# Altium schematic symbol library PicoROM.SchLib: 23 symbols
Pins are listed as number, name and electrical type; pins without a type are passive.

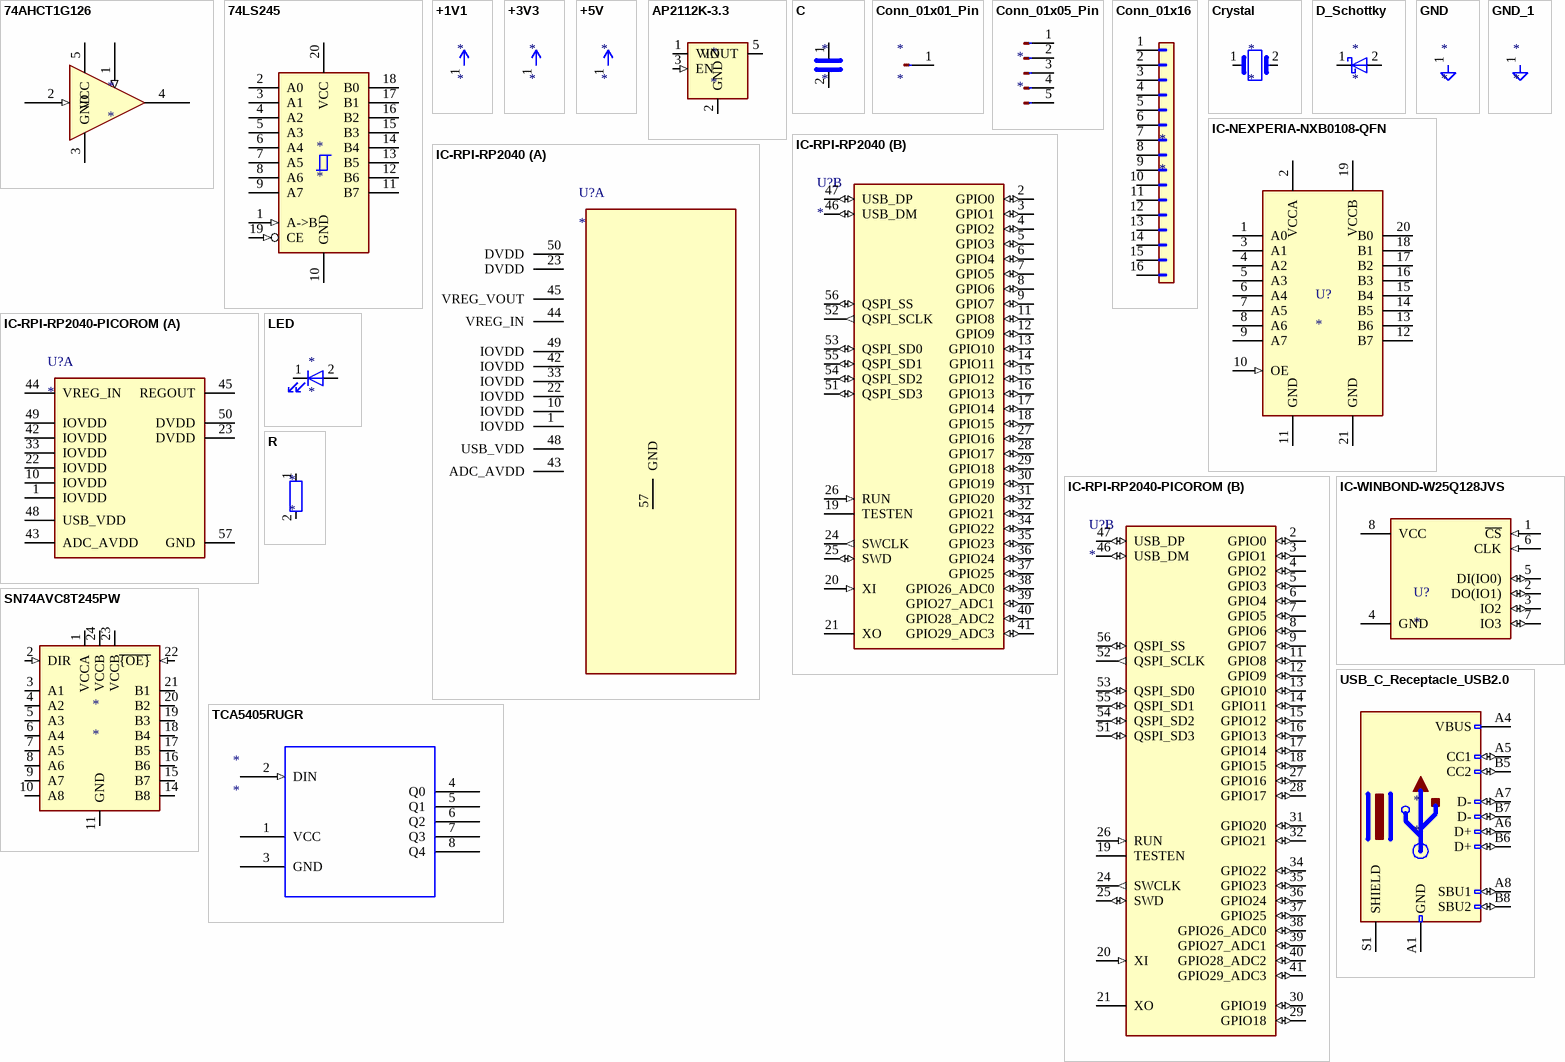
[diagram p0: symbols 74AHCT1G126 to USB_C_Receptacle_USB2.0]

## 74AHCT1G126
designator *
pins: 1 (in), 2 (in), 3 GND (power), 4 (hiz), 5 VCC (power)

## 74LS245
designator *
pins: 1 A->B (in), 2 A0 (hiz), 3 A1 (hiz), 4 A2 (hiz), 5 A3 (hiz), 6 A4 (hiz), 7 A5 (hiz), 8 A6 (hiz), 9 A7 (hiz), 10 GND (power), 11 B7 (hiz), 12 B6 (hiz), 13 B5 (hiz), 14 B4 (hiz), 15 B3 (hiz), 16 B2 (hiz), 17 B1 (hiz), 18 B0 (hiz), 19 CE (in), 20 VCC (power)

## +1V1
designator *
pins: 1 +1V1 (power)

## +3V3
designator *
pins: 1 +3V3 (power)

## +5V
designator *
pins: 1 (power)

## AP2112K-3.3
designator *
pins: 1 VIN (power), 2 GND (power), 3 EN (in), 4 NC (in) hidden, 5 VOUT (power)

## C
designator *
pins: 1, 2

## Conn_01x01_Pin
designator *
pins: 1 Pin_1

## Conn_01x05_Pin
designator *
pins: 1 Pin_1, 2 Pin_2, 3 Pin_3, 4 Pin_4, 5 Pin_5

## Conn_01x16
designator *
pins: 1 Pin_1, 2 Pin_2, 3 Pin_3, 4 Pin_4, 5 Pin_5, 6 Pin_6, 7 Pin_7, 8 Pin_8, 9 Pin_9, 10 Pin_10, 11 Pin_11, 12 Pin_12, 13 Pin_13, 14 Pin_14, 15 Pin_15, 16 Pin_16

## Crystal
designator *
pins: 1, 2

## D_Schottky
designator *
pins: 1 K, 2 A

## GND
designator *
pins: 1 GND (power)

## GND_1
designator *
pins: 1 GND (power)

## IC-NEXPERIA-NXB0108-QFN
designator U?
NXB0108
pins: 1 A0 (hiz), 2 VCCA (power), 3 A1 (hiz), 4 A2 (hiz), 5 A3 (hiz), 6 A4 (hiz), 7 A5 (hiz), 8 A6 (hiz), 9 A7 (hiz), 10 OE (in), 11 GND (power), 12 B7 (hiz), 13 B6 (hiz), 14 B5 (hiz), 15 B4 (hiz), 16 B3 (hiz), 17 B2 (hiz), 18 B1 (hiz), 19 VCCB (power), 20 B0 (hiz), 21 GND (power)

## IC-RPI-RP2040
designator U?
part A pins: 1 IOVDD (power), 10 IOVDD (power), 22 IOVDD (power), 23 DVDD (power), 33 IOVDD (power), 42 IOVDD (power), 43 ADC_AVDD (power), 44 VREG_IN (power), 45 VREG_VOUT (power), 48 USB_VDD (power), 49 IOVDD (power), 50 DVDD (power), 57 GND (power)
part B pins: 2 GPIO0 (io), 3 GPIO1 (io), 4 GPIO2 (io), 5 GPIO3 (io), 6 GPIO4 (io), 7 GPIO5 (io), 8 GPIO6 (io), 9 GPIO7 (io), 11 GPIO8 (io), 12 GPIO9 (io), 13 GPIO10 (io), 14 GPIO11 (io), 15 GPIO12 (io), 16 GPIO13 (io), 17 GPIO14 (io), 18 GPIO15 (io), 19 TESTEN, 20 XI (in), 21 XO, 24 SWCLK (out), 25 SWD (io), 26 RUN (in), 27 GPIO16 (io), 28 GPIO17 (io), 29 GPIO18 (io), 30 GPIO19 (io), 31 GPIO20 (io), 32 GPIO21 (io), 34 GPIO22 (io), 35 GPIO23 (io), 36 GPIO24 (io), 37 GPIO25 (io), 38 GPIO26_ADC0 (io), 39 GPIO27_ADC1 (io), 40 GPIO28_ADC2 (io), 41 GPIO29_ADC3 (io), 46 USB_DM (io), 47 USB_DP (io), 51 QSPI_SD3 (io), 52 QSPI_SCLK (out), 53 QSPI_SD0 (io), 54 QSPI_SD2 (io), 55 QSPI_SD1 (io), 56 QSPI_SS (io)

## IC-RPI-RP2040-PICOROM
designator U?
part A pins: 1 IOVDD (power), 10 IOVDD (power), 22 IOVDD (power), 23 DVDD (power), 33 IOVDD (power), 42 IOVDD (power), 43 ADC_AVDD (power), 44 VREG_IN (power), 45 REGOUT (power), 48 USB_VDD (power), 49 IOVDD (power), 50 DVDD (power), 57 GND (power)
part B pins: 2 GPIO0 (io), 3 GPIO1 (io), 4 GPIO2 (io), 5 GPIO3 (io), 6 GPIO4 (io), 7 GPIO5 (io), 8 GPIO6 (io), 9 GPIO7 (io), 11 GPIO8 (io), 12 GPIO9 (io), 13 GPIO10 (io), 14 GPIO11 (io), 15 GPIO12 (io), 16 GPIO13 (io), 17 GPIO14 (io), 18 GPIO15 (io), 19 TESTEN, 20 XI (in), 21 XO, 24 SWCLK (out), 25 SWD (io), 26 RUN (in), 27 GPIO16 (io), 28 GPIO17 (io), 29 GPIO18 (io), 30 GPIO19 (io), 31 GPIO20 (io), 32 GPIO21 (io), 34 GPIO22 (io), 35 GPIO23 (io), 36 GPIO24 (io), 37 GPIO25 (io), 38 GPIO26_ADC0 (io), 39 GPIO27_ADC1 (io), 40 GPIO28_ADC2 (io), 41 GPIO29_ADC3 (io), 46 USB_DM (io), 47 USB_DP (io), 51 QSPI_SD3 (io), 52 QSPI_SCLK (out), 53 QSPI_SD0 (io), 54 QSPI_SD2 (io), 55 QSPI_SD1 (io), 56 QSPI_SS (io)

## IC-WINBOND-W25Q128JVS
designator U?
pins: 1 ~{CS} (in), 2 DO(IO1) (io), 3 IO2 (io), 4 GND (power), 5 DI(IO0) (io), 6 CLK (in), 7 IO3 (io), 8 VCC (power)

## LED
designator *
pins: 1 K, 2 A

## R
designator *
pins: 1, 2

## SN74AVC8T245PW
designator *
pins: 1 VCCA (power), 2 DIR (in), 3 A1 (io), 4 A2 (io), 5 A3 (io), 6 A4 (io), 7 A5 (io), 8 A6 (io), 9 A7 (io), 10 A8 (io), 11 GND (power), 12 GND hidden, 13 GND hidden, 14 B8 (io), 15 B7 (io), 16 B6 (io), 17 B5 (io), 18 B4 (io), 19 B3 (io), 20 B2 (io), 21 B1 (io), 22 ~{{OE}} (in), 23 VCCB (power), 24 VCCB (power)

## TCA5405RUGR
designator *
pins: 1 VCC (power), 2 DIN (in), 3 GND (power), 4 Q0, 5 Q1, 6 Q2, 7 Q3, 8 Q4

## USB_C_Receptacle_USB2.0
designator *
pins: A1 GND, A4 VBUS, A5 CC1 (io), A6 D+ (io), A7 D- (io), A8 SBU1 (io), A9 VBUS hidden, A12 GND hidden, B1 GND hidden, B4 VBUS hidden, B5 CC2 (io), B6 D+ (io), B7 D- (io), B8 SBU2 (io), B9 VBUS hidden, B12 GND hidden, S1 SHIELD